# EAGLE library part KGM-SRAM (library sf-keyglovekit)
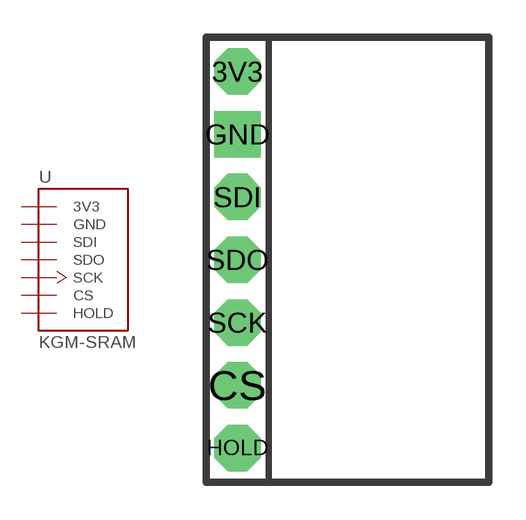
[diagram p5: symbol with the pads of KGM-SRAM; footprint KGM-SRAM]

Designator prefix -

## KGM-SRAM  [KGM-SRAM]
3V3  3V3  pwr
CS  CS  in
GND  GND  pwr
HOLD  HOLD  in
SCK  SCK
SDI  SDI  in
SDO  SDO  out

## Footprint KGM-SRAM (pad centres in mm)
drill 1.016 pad 1.88 octagon: 3V3 1.27,16.637; CS 1.27,3.937; HOLD 1.27,1.397; SCK 1.27,6.477; SDI 1.27,11.557; SDO 1.27,9.017
drill 1.016 pad 1.88 square: GND 1.27,14.097